# Altium footprint library Miscellaneous.PcbLib: 33 footprints (part 2 of 3)
Each footprint in its own frame and in the unit in brackets; x right, y up, seen from the top. Pads: shape width x height; smd on the part's side, far side on the other; paste and mask are expansions set on the pad; w line width, h text height; cw(c..) or ccw(c..) is an arc to the next point about the centre after c.
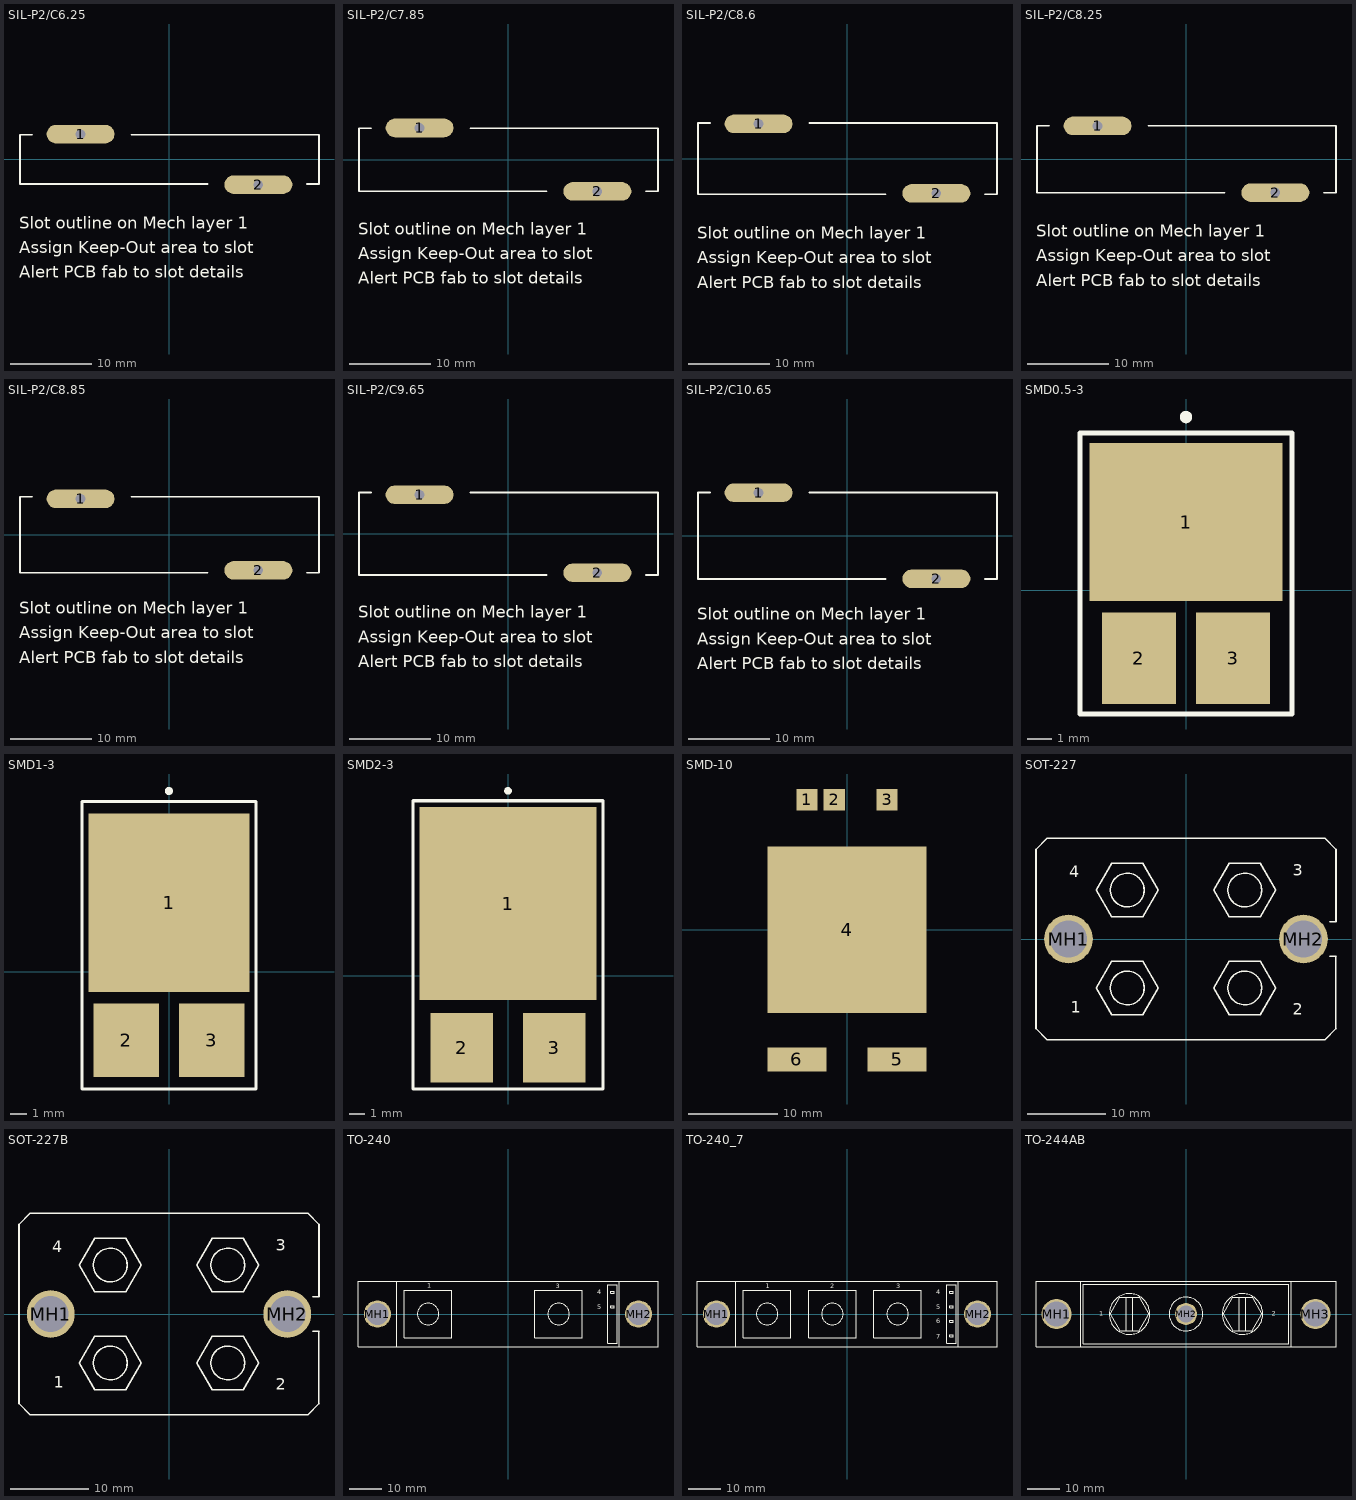
[diagram p1: the footprints below, top view; thin cyan lines are the x and y axes]

## SIL-P2/C6.25 [mm] "MOV; 2 Terminals; Body 37 x 6.1 x 44.5 mm (LxWxH)"
height 44.5
pads (2):
  oval 8.4x2.3 hole 1.2: 1(-11,3.125) 2(11,-3.125)
Top Overlay:
  lines w0.2: -17,3.05 -18.5,3.05 -18.5,-3.05 4.7,-3.05 ; -4.7,3.05 18.5,3.05 18.5,-3.05 17,-3.05
  text "Alert PCB fab to slot details" at -18.62,-14.655 h1.5
  text "Assign Keep-Out area to slot" at -18.62,-11.607 h1.5
  text "Slot outline on Mech layer 1" at -18.62,-8.559 h1.5
Mechanical 1:
  lines w0.2: -14.05,2.525 cw(c-14.05,3.125) -14.05,3.725 -7.95,3.725 cw(c-7.95,3.125) -7.95,2.525 -14.05,2.525 ; 7.95,-3.725 cw(c7.95,-3.125) 7.95,-2.525 14.05,-2.525 cw(c14.05,-3.125) 14.05,-3.725 7.95,-3.725

## SIL-P2/C7.85 [mm] "MOV; 2 Terminals; Body 37 x 7.8 x 44.5 mm (LxWxH)"
height 44.5
pads (2):
  oval 8.4x2.3 hole 1.2: 1(-11,3.925) 2(11,-3.925)
Top Overlay:
  lines w0.2: -17,3.9 -18.5,3.9 -18.5,-3.9 4.7,-3.9 ; -4.7,3.9 18.5,3.9 18.5,-3.9 17,-3.9
  text "Slot outline on Mech layer 1" at -18.62,-9.283 h1.5
  text "Assign Keep-Out area to slot" at -18.62,-12.331 h1.5
  text "Alert PCB fab to slot details" at -18.62,-15.379 h1.5
Mechanical 1:
  lines w0.2: -14.05,3.325 cw(c-14.05,3.925) -14.05,4.525 -7.95,4.525 cw(c-7.95,3.925) -7.95,3.325 -14.05,3.325 ; 7.95,-4.525 cw(c7.95,-3.925) 7.95,-3.325 14.05,-3.325 cw(c14.05,-3.925) 14.05,-4.525 7.95,-4.525

## SIL-P2/C8.6 [mm] "MOV; 2 Terminals; Body 37 x 8.8 x 44.5 mm (LxWxH)"
height 44.5
pads (2):
  oval 8.4x2.3 hole 1.2: 1(-11,4.3) 2(11,-4.3)
Top Overlay:
  lines w0.2: -17,4.4 -18.5,4.4 -18.5,-4.4 4.7,-4.4 ; -4.7,4.4 18.5,4.4 18.5,-4.4 17,-4.4
  text "Slot outline on Mech layer 1" at -18.62,-9.924 h1.5
  text "Assign Keep-Out area to slot" at -18.62,-12.972 h1.5
  text "Alert PCB fab to slot details" at -18.62,-16.02 h1.5
Mechanical 1:
  lines w0.2: -14.05,3.7 cw(c-14.05,4.3) -14.05,4.9 -7.95,4.9 cw(c-7.95,4.3) -7.95,3.7 -14.05,3.7 ; 7.95,-4.9 cw(c7.95,-4.3) 7.95,-3.7 14.05,-3.7 cw(c14.05,-4.3) 14.05,-4.9 7.95,-4.9

## SIL-P2/C8.25 [mm] "MOV; 2 Terminals; Body 37 x 8.3 x 44.5 mm (LxWxH)"
height 44.5
pads (2):
  oval 8.4x2.3 hole 1.2: 1(-11,4.125) 2(11,-4.125)
Top Overlay:
  lines w0.2: -17,4.15 -18.5,4.15 -18.5,-4.15 4.7,-4.15 ; -4.7,4.15 18.5,4.15 18.5,-4.15 17,-4.15
  text "Slot outline on Mech layer 1" at -18.62,-9.591 h1.5
  text "Assign Keep-Out area to slot" at -18.62,-12.639 h1.5
  text "Alert PCB fab to slot details" at -18.62,-15.687 h1.5
Mechanical 1:
  lines w0.2: -14.05,3.525 cw(c-14.05,4.125) -14.05,4.725 -7.95,4.725 cw(c-7.95,4.125) -7.95,3.525 -14.05,3.525 ; 7.95,-4.725 cw(c7.95,-4.125) 7.95,-3.525 14.05,-3.525 cw(c14.05,-4.125) 14.05,-4.725 7.95,-4.725

## SIL-P2/C8.85 [mm] "MOV; 2 Terminals; Body 37 x 9.4 x 44.5 mm (LxWxH)"
height 44.5
pads (2):
  oval 8.4x2.3 hole 1.2: 1(-11,4.425) 2(11,-4.425)
Top Overlay:
  lines w0.2: -17,4.7 -18.5,4.7 -18.5,-4.7 4.7,-4.7 ; -4.7,4.7 18.5,4.7 18.5,-4.7 17,-4.7
  text "Alert PCB fab to slot details" at -18.62,-15.895 h1.5
  text "Assign Keep-Out area to slot" at -18.62,-12.847 h1.5
  text "Slot outline on Mech layer 1" at -18.62,-9.799 h1.5
Mechanical 1:
  lines w0.2: -14.05,3.825 cw(c-14.05,4.425) -14.05,5.025 -7.95,5.025 cw(c-7.95,4.425) -7.95,3.825 -14.05,3.825 ; 7.95,-5.025 cw(c7.95,-4.425) 7.95,-3.825 14.05,-3.825 cw(c14.05,-4.425) 14.05,-5.025 7.95,-5.025

## SIL-P2/C9.65 [mm] "MOV; 2 Terminals; Body 37 x 10.2 x 44.5 mm (LxWxH)"
height 44.5
pads (2):
  oval 8.4x2.3 hole 1.2: 1(-11,4.825) 2(11,-4.825)
Top Overlay:
  lines w0.2: -17,5.1 -18.5,5.1 -18.5,-5.1 4.7,-5.1 ; -4.7,5.1 18.5,5.1 18.5,-5.1 17,-5.1
  text "Slot outline on Mech layer 1" at -18.62,-10.415 h1.5
  text "Assign Keep-Out area to slot" at -18.62,-13.463 h1.5
  text "Alert PCB fab to slot details" at -18.62,-16.511 h1.5
Mechanical 1:
  lines w0.2: -14.05,4.225 cw(c-14.05,4.825) -14.05,5.425 -7.95,5.425 cw(c-7.95,4.825) -7.95,4.225 -14.05,4.225 ; 7.95,-5.425 cw(c7.95,-4.825) 7.95,-4.225 14.05,-4.225 cw(c14.05,-4.825) 14.05,-5.425 7.95,-5.425

## SIL-P2/C10.65 [mm] "MOV; 2 Terminals; Body 37 x 10.7 x 44.5 mm (LxWxH)"
height 44.5
pads (2):
  oval 8.4x2.3 hole 1.2: 1(-11,5.325) 2(11,-5.325)
Top Overlay:
  lines w0.2: -17,5.35 -18.5,5.35 -18.5,-5.35 4.7,-5.35 ; -4.7,5.35 18.5,5.35 18.5,-5.35 17,-5.35
  text "Slot outline on Mech layer 1" at -18.62,-10.423 h1.5
  text "Assign Keep-Out area to slot" at -18.62,-13.471 h1.5
  text "Alert PCB fab to slot details" at -18.62,-16.519 h1.5
Mechanical 1:
  lines w0.2: -14.05,4.725 cw(c-14.05,5.325) -14.05,5.925 -7.95,5.925 cw(c-7.95,5.325) -7.95,4.725 -14.05,4.725 ; 7.95,-5.925 cw(c7.95,-5.325) 7.95,-4.725 14.05,-4.725 cw(c14.05,-5.325) 14.05,-5.925 7.95,-5.925

## SMD0.5-3 [mm] "SMT; 3 Leadless Terminals; Body 10.28 x 7.64 x 3.06 mm (LxWxH)"
height 3.06
pads (3):
  rect 7.8x6.4 smd: 1(0,2.76)
  rect 3x3.7 smd: 2(-1.905,-2.76) 3(1.905,-2.76)
Top Overlay:
  circle w0.25: c0,7.01 r0.125
  lines w0.2: -4.3,-5.01 4.3,-5.01 4.3,6.36 -4.3,6.36 -4.3,-5.01

## SMD1-3 [mm] "SMT; 3 Leadless Terminals; Body 16 x 11.55 x 3.58 mm (LxWxH)"
height 3.58
pads (3):
  rect 10.1x11.2 smd: 1(0,4.305)
  rect 4.1x4.6 smd: 2(-2.667,-4.305) 3(2.667,-4.305)
Top Overlay:
  circle w0.25: c0,11.3 r0.125
  lines w0.2: -5.45,-7.35 5.45,-7.35 5.45,10.65 -5.45,10.65 -5.45,-7.35

## SMD2-3 [mm] "SMT; 3 Leadless Terminals; Body 17.65 x 13.46 x 3.58 mm (LxWxH)"
height 3.58
pads (3):
  rect 11.7x12.7 smd: 1(0,4.75)
  rect 4.1x4.6 smd: 2(-3.048,-4.75) 3(3.048,-4.75)
Top Overlay:
  circle w0.25: c0,12.175 r0.125
  lines w0.2: -6.25,-7.475 6.25,-7.475 6.25,11.525 -6.25,11.525 -6.25,-7.475

## SMD-10 [mm] "SMD-10 Package; 6 Terminals; Body 29 x 14.2 x 4.27 mm (LxWxH)"
height 4.27
pads (6):
  rect 2.4x2.4 smd: 1(-4.5,14.6) 2(-1.45,14.6) 3(4.5,14.6)
  rect 17.9x18.75 smd: 4(0,-0.025)
  rect 6.65x2.7 smd: 5(5.625,-14.6) 6(-5.625,-14.6)

## SOT-227 [mm] "SOT-227; 4 Screw Terminals, 2 Mounting Holes"
height 12.3
pads (2):
  round 6.2 hole 4.7: MH1(-15,0) MH2(15,0)
Top Overlay:
  circle w0.2: c7.5,-6.25 r2.15
  circle w0.2: c-7.5,-6.25 r2.15
  circle w0.2: c7.5,6.25 r2.15
  circle w0.2: c-7.5,6.25 r2.15
  lines w0.2: 18.35,-2.2 19.15,-2.2 ; 18.35,2.2 19.15,2.2 19.15,11.436 17.736,12.85 -17.736,12.85 -19.15,11.436 -19.15,-11.436 -17.736,-12.85 17.736,-12.85 19.15,-11.436 ; 19.123,-11.409 19.123,-2.2 ; -11.45,-6.25 -9.475,-2.829 -5.525,-2.829 -3.55,-6.25 -5.525,-9.671 -9.475,-9.671 -11.45,-6.25 ; -11.45,6.25 -9.475,9.671 -5.525,9.671 -3.55,6.25 -5.525,2.829 -9.475,2.829 -11.45,6.25 ; 3.55,-6.25 5.525,-2.829 9.475,-2.829 11.45,-6.25 9.475,-9.671 5.525,-9.671 3.55,-6.25 ; 3.55,6.25 5.525,9.671 9.475,9.671 11.45,6.25 9.475,2.829 5.525,2.829 3.55,6.25
  text "4" at -14.9,7.9 h1.5
  text "3" at 13.6,8.1 h1.5
  text "2" at 13.6,-9.7 h1.5
  text "1" at -14.7,-9.4 h1.5

## SOT-227B [mm] "SOT-227; 4 Screw Terminals, 2 Mounting Holes; Body 38.2 x 25.4 x 12.2 mm (LxWxH max)"
height 12.2
pads (2):
  round 6.1 hole 4.6: MH1(-15.1,0) MH2(15.1,0)
Top Overlay:
  circle w0.2: c-7.5,6.25 r2.15
  circle w0.2: c7.5,6.25 r2.15
  circle w0.2: c-7.5,-6.25 r2.15
  circle w0.2: c7.5,-6.25 r2.15
  lines w0.2: 18.35,-2.2 19.15,-2.2 ; 18.35,2.2 19.15,2.2 19.15,11.436 17.736,12.85 -17.736,12.85 -19.15,11.436 -19.15,-11.436 -17.736,-12.85 17.736,-12.85 19.15,-11.436 ; 19.123,-11.409 19.123,-2.2 ; -11.45,-6.25 -9.475,-9.671 -5.525,-9.671 -3.55,-6.25 -5.525,-2.829 -9.475,-2.829 -11.45,-6.25 ; -11.45,6.25 -9.475,2.829 -5.525,2.829 -3.55,6.25 -5.525,9.671 -9.475,9.671 -11.45,6.25 ; 3.55,-6.25 5.525,-9.671 9.475,-9.671 11.45,-6.25 9.475,-2.829 5.525,-2.829 3.55,-6.25 ; 3.55,6.25 5.525,2.829 9.475,2.829 11.45,6.25 9.475,9.671 5.525,9.671 3.55,6.25
  text "1" at -14.7,-9.4 h1.5
  text "2" at 13.6,-9.7 h1.5
  text "3" at 13.6,8.1 h1.5
  text "4" at -14.9,7.9 h1.5

## TO-240 [mm] "Power Module/TO-240-AA; 2 Screw & 2 Quick-Connect Terminals; Body 92 x 20 x 37 mm (LxWxH)"
height 37
pads (2):
  round 8.3 hole 6.8: MH1(-40.005,0) MH2(40.005,0)
Top Overlay:
  circle w0.2: c15.526,0 r3.3
  circle w0.2: c-24.474,0 r3.3
  lines w0.2: -34.108,-9.995 -34.108,9.995 ; 34.108,-9.995 34.108,9.995 ; -45.974,-9.995 -45.974,9.995 45.974,9.995 45.974,-9.995 -45.974,-9.995 ; -31.774,-7.3 -17.174,-7.3 -17.174,7.3 -31.774,7.3 -31.774,-7.3 ; 8.226,-7.3 8.226,7.3 22.826,7.3 22.826,-7.3 8.226,-7.3 ; 30.526,-9 30.526,9 33.526,9 33.526,-9 30.526,-9 ; 31.526,1.969 32.526,1.969 32.526,2.469 31.526,2.469 31.526,1.969 ; 31.526,6.406 32.526,6.406 32.526,6.906 31.526,6.906 31.526,6.406
  text "4" at 27.349,6.104 h1.5
  text "5" at 27.349,1.447 h1.5
  text "1" at -24.676,8.078 h1.5
  text "3" at 14.652,7.962 h1.5

## TO-240_7 [mm] "Power Module/TO-240-AA; 3 Screw & 4 Quick-Connect Terminals; Body 92 x 20 x 37 mm (LxWxH)"
height 37
pads (2):
  round 8.3 hole 6.8: MH1(-40.005,0) MH2(40.005,0)
Top Overlay:
  circle w0.2: c15.526,0 r3.3
  circle w0.2: c-4.474,0 r3.3
  circle w0.2: c-24.474,0 r3.3
  lines w0.2: -34.108,-9.995 -34.108,9.995 ; 34.108,-9.995 34.108,9.995 ; -45.974,-9.995 -45.974,9.995 45.974,9.995 45.974,-9.995 -45.974,-9.995 ; -31.774,-7.3 -17.174,-7.3 -17.174,7.3 -31.774,7.3 -31.774,-7.3 ; -11.774,-7.3 -11.774,7.3 2.826,7.3 2.826,-7.3 -11.774,-7.3 ; 8.226,-7.3 8.226,7.3 22.826,7.3 22.826,-7.3 8.226,-7.3 ; 30.526,-9 30.526,9 33.526,9 33.526,-9 30.526,-9 ; 31.526,-6.906 32.526,-6.906 32.526,-6.406 31.526,-6.406 31.526,-6.906 ; 31.526,-2.469 32.526,-2.469 32.526,-1.969 31.526,-1.969 31.526,-2.469 ; 31.526,1.969 32.526,1.969 32.526,2.469 31.526,2.469 31.526,1.969 ; 31.526,6.406 32.526,6.406 32.526,6.906 31.526,6.906 31.526,6.406
  text "4" at 27.349,6.104 h1.5
  text "7" at 27.349,-7.633 h1.5
  text "6" at 27.291,-2.802 h1.5
  text "5" at 27.349,1.447 h1.5
  text "2" at -5.113,7.876 h1.5
  text "3" at 15.084,7.876 h1.5
  text "1" at -24.906,7.962 h1.5

## TO-244AB [mm] "Rectangular Flange Mount/TO-244-AB; 2 Screw Terminals; Body 92.71 x 20.32 x 23.55 mm (LxWxH max)"
height 23.55
pads (3):
  round 9.3 hole 7.8: MH1(-40.005,0) MH3(40.005,0)
  round 6.8 hole 5.3: MH2(0,0)
Top Overlay:
  circle w0.2: c-17.462,0 r6.26
  circle w0.2: c17.462,0 r6.26
  circle w0.2: c0,0 r5.205
  lines w0.2: -32.5,-10.16 -32.5,10.16 ; -20.467,-5.152 -23.472,0 ; -18.465,-5.205 -18.465,5.205 ; -16.46,-5.205 -16.46,5.205 ; 16.46,-5.205 16.46,5.205 ; 18.465,-5.205 18.465,5.205 ; 32.5,-10.16 32.5,10.16 ; -23.472,0 -20.467,-5.205 -14.458,-5.205 -11.453,0 -14.458,5.205 -20.467,5.205 -23.472,0 ; -46.355,-10.16 46.355,-10.16 46.355,10.16 -46.355,10.16 -46.355,-10.16 ; -31.75,-9.16 -31.75,9.16 31.75,9.16 31.75,-9.16 -31.75,-9.16 ; 11.453,0 14.458,-5.205 20.467,-5.205 23.472,0 20.467,5.205 14.458,5.205 11.453,0
  text "1" at -26.82,-0.54 h1.5
  text "2" at 26.554,-0.54 h1.5